# Altium footprint library Small Outline Diode - 2 Gullwing Leads.PcbLib: 5 footprints
Each footprint in its own frame and in the unit in brackets; x right, y up, seen from the top. Pads: shape width x height; smd on the part's side, far side on the other; paste and mask are expansions set on the pad; w line width, h text height; cw(c..) or ccw(c..) is an arc to the next point about the centre after c.
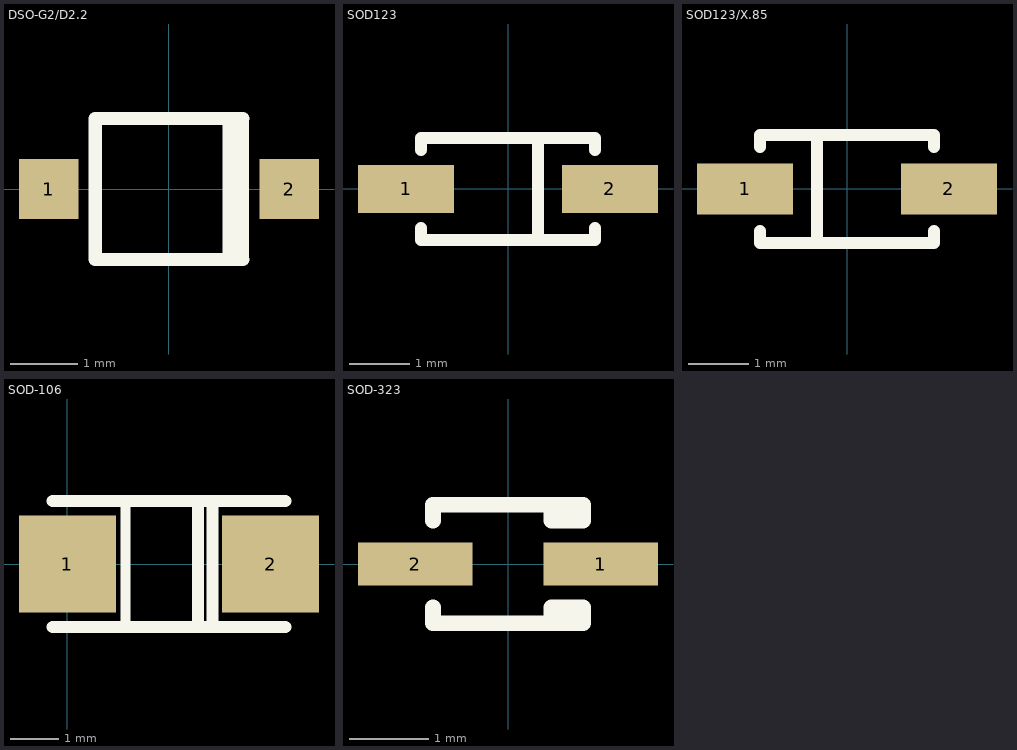
[diagram p0: the footprints below, top view; thin cyan lines are the x and y axes]

## DSO-G2/D2.2 [mm] "SM LED; 2 Gull Wing Leads; Body 2.2 x 2.1 mm, (LxW)"
height 2.2
pads (2):
  rect 0.89x0.89 smd: 1(-1.79,0) 2(1.79,0)
Top Overlay:
  lines w0.2: 0.895,-1.05 0.895,1.05 ; 1.095,-1.05 1.095,1.05 ; 1.1,-1.05 -1.1,-1.05 -1.1,1.05 1.1,1.05

## SOD123 [mm] "SOD-123; 2 Leads; Body 2.7 x 1.6 mm, (LxW)"
height 1.35
pads (2):
  rect 1.6x0.8 smd: 1(-1.7,0) 2(1.7,0)
Top Overlay:
  lines w0.2: -1.45,-0.65 -1.45,-0.85 1.45,-0.85 1.45,-0.65 ; -1.45,0.65 -1.45,0.85 1.45,0.85 1.45,0.65 ; 0.5,-0.85 0.5,0.85

## SOD123/X.85 [mm] "SOD-123; 2 Leads; Body 2.7 x 1.6 mm, (LxW)"
height 1.35
pads (2):
  rect 1.6x0.85 smd: 1(-1.7,0) 2(1.7,0)
Top Overlay:
  lines w0.2: -1.45,-0.7 -1.45,-0.9 1.45,-0.9 1.45,-0.7 ; -1.45,0.7 -1.45,0.9 1.45,0.9 1.45,0.7 ; -0.5,-0.9 -0.5,0.9

## SOD-106 [mm] "SM LED; Body 2.6x4.5"
height 2.2
pads (2):
  rect 2x2 smd: 1(0,0) 2(4.2,0)
Top Overlay:
  lines w0.2: 1.2,-1.3 1.2,1.3
  lines w0.254: -0.3,-1.3 1.2,-1.3 4.5,-1.3 ; -0.3,1.3 1.2,1.3 4.5,1.3 ; 2.7,-1.3 2.7,1.3 ; 3,-1.3 3,1.3
3D body: height 2.2, standoff 0, extent -0.3,-1.3 4.5,1.3

## SOD-323 [mm] "SOD-323/SC-76; 2 Leads; Body 1.7 x 1.3 mm, (LxW)"
height 1.1
pads (2):
  rect 1.45x0.55 smd: 1(1.175,0) 2(-1.175,0)
Top Overlay:
  lines w0.2: -0.95,-0.55 -0.95,-0.75 0.95,-0.75 0.95,-0.55 0.55,-0.55 0.55,-0.75 ; -0.95,0.55 -0.95,0.75 0.95,0.75 0.95,0.55 0.55,0.55 0.55,0.75